# Altium schematic symbol library EMG_Electorde_Adapter.SchLib: 2 symbols
Pins are listed as number, name and electrical type; pins without a type are passive.

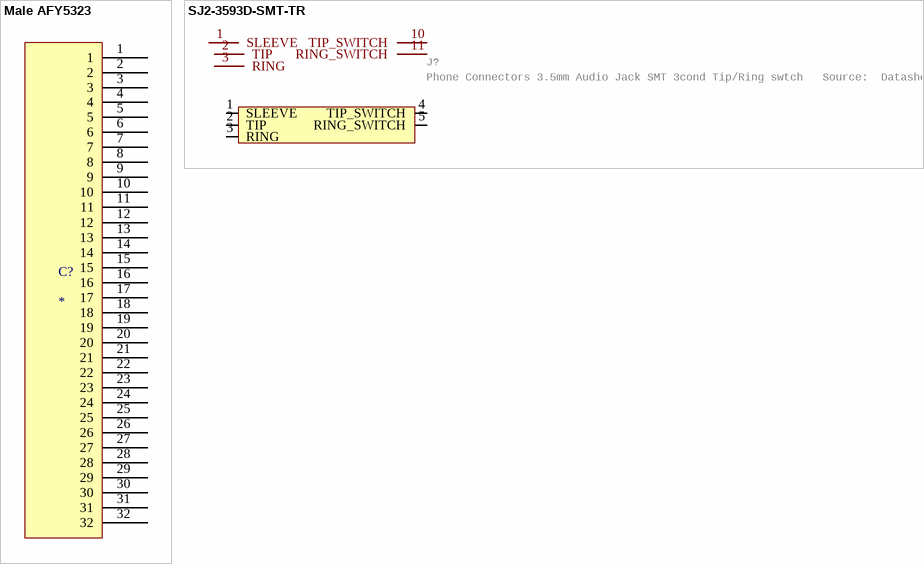
[diagram p0: symbols Male AFY5323 to SJ2-3593D-SMT-TR]

## Male AFY5323
designator C?
footprint Male AFY5323
pins: 1, 2, 3, 4, 5, 6, 7, 8, 9, 10, 11, 12, 13, 14, 15, 16, 17, 18, 19, 20, 21, 22, 23, 24, 25, 26, 27, 28, 29, 30, 31, 32

## SJ2-3593D-SMT-TR
designator J?, comment Phone Connectors 3.5mm Audio Jack SMT 3cond Tip/Ring swtch   Source:  Datasheet
Manufacturer_Name: CUI Devices; GateName_1: G$1; SymbolName_1: SJ2-3593D-SMT-TR; LibraryName: SJ2-3593D-SMT-TR; DeviceSetName: SJ2-3593D-SMT-TR; Package: SJ23593DSMTTR; Manufacturer_Part_Number: SJ2-3593D-SMT-TR; Mouser_Part_Number: 490-SJ2-3593D-SMT-TR; Mouser_Price-Stock: https://www.mouser.co.uk/ProductDetail/CUI-Devices/SJ2-3593D-SMT-TR?qs=DXv0QSHKF4wWj2AnIqZJhQ%3D%3D; Arrow_Part_Number: SJ2-3593D-SMT-TR; Arrow_Price-Stock: https://www.arrow.com/en/products/sj2-3593d-smt-tr/cui-devices?region=nac; Height: 5.1mm
footprint SJ23593DSMTTR
pins: 1 SLEEVE, 1 SLEEVE, 2 TIP, 2 TIP, 3 RING, 3 RING, 4 TIP_SWITCH, 5 RING_SWITCH, 10 TIP_SWITCH, 11 RING_SWITCH